# EAGLE library part PINHD1X10 (library FP-21T for MITS)
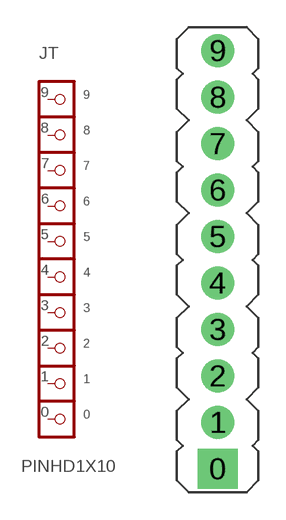
[diagram p8: symbol with the pads of PINHD1X10; footprint PINHD1X10]

Designator prefix JT

## PINHD1X10  [PINHD1X10]
0  1  pas
1  2  pas
2  3  pas
3  4  pas
4  5  pas
5  6  pas
6  7  pas
7  8  pas
8  9  pas
9  10  pas

## Footprint PINHD1X10 (pad centres in mm)
drill 1 pad 2.184 square: 0 0,0
drill 1 pad 1.8: 1 0,2.54; 2 0,5.08; 3 0,7.62; 4 0,10.16; 5 0,12.7; 6 0,15.24; 7 0,17.78; 8 0,20.32; 9 0,22.86